# EAGLE library part IC-OPAMP-DUAL-* (library elpp-smt-v1.0)
Operational amplifier, dual.
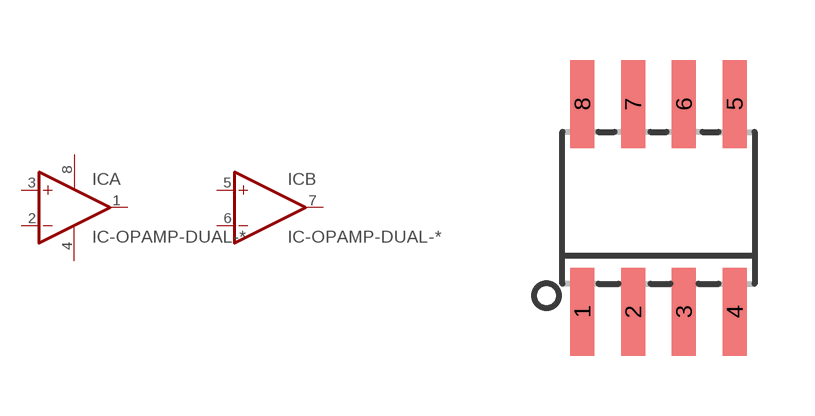
[diagram p0: symbol with the pads of ELPP-SOIC-8; footprint ELPP-SOIC-8]

Designator prefix IC; gates A=OPAMP B=OPAMP P=PWR+-

## IC-OPAMP-DUAL-LM358 (FARNELL: 2342290; RS: 7140827), IC-OPAMP-DUAL-LM6132AIM (FARNELL: 9490043; RS: 5343481), IC-OPAMP-DUAL-TS922IDT (FARNELL: 1642724; RS: 7141142)  [ELPP-SOIC-8]
1  A:OUT  out
2  A:-IN  in
3  A:+IN  in
4  P:V-  pas
5  B:+IN  in
6  B:-IN  in
7  B:OUT  out
8  P:V+  pas

## Footprint ELPP-SOIC-8 (pad centres in mm)
SOIC-8
smd 0.6 x 2.2: 1 -1.905,-2.6; 2 -0.635,-2.6; 3 0.635,-2.6; 4 1.905,-2.6; 5 1.905,2.6; 6 0.635,2.6; 7 -0.635,2.6; 8 -1.905,2.6